# Altium schematic symbol library pads15l_schematic.SchLib: 15 symbols
Pins are listed as number, name and electrical type; pins without a type are passive.

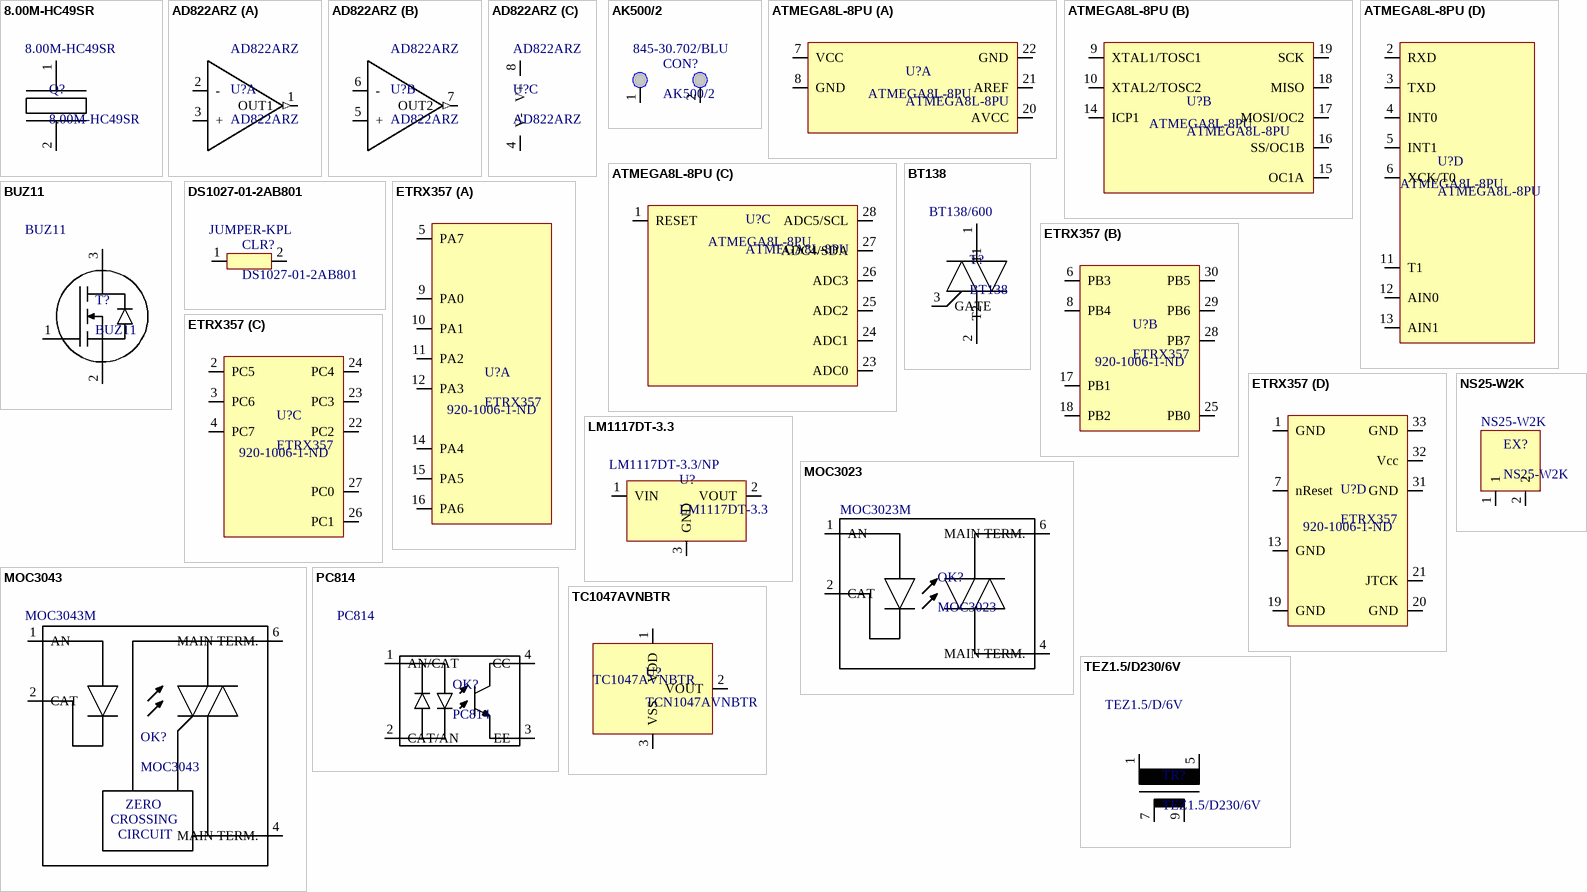
[diagram p0: symbols 8.00M-HC49SR to TEZ1.5/D230/6V]

## 8.00M-HC49SR
designator Q?
HC49SR 8 MHz crystal; HelpURL: http://www.tme.eu/pl/Document/efcb5317c1386eb387f1a821507cdec8/hc49_4h.pdf; Supplier 1: TME; Supplier Part Number 1: 8.00M-HC49SR
footprint HC49-S (Casing HC49-S for quartz crystals)
pins: 1, 2

## AD822ARZ
designator U?
Single-Supply, Rail-to-Rail Low Power FET-Input Op Amp; HelpURL: http://www.tme.eu/pl/Document/b30f5a7ab9ecbe4170886a73924c33dc/ad822anz.pdf; Supplier 1: TME; Supplier Part Number 1: AD822ARZ
footprint SO8
part A pins: 1 OUT1 (out), 2 -, 3 +
part B pins: 5 +, 6 -, 7 OUT2 (out)
part C pins: 4 V-, 8 V+

## AK500/2
designator CON?  Supplier Part Number 1: 845-30.702/BLU
AK500/2 connector; HelpURL: http://www.mouser.com/ds/2/16/PCBMETRC-24178.pdf; Supplier 1: Mouser
footprint AK500/2 (AK500/2 connector)
pins: 1, 2

## ATMEGA8L-8PU
designator U?
8-bit AVR with 8K Bytes In-System Programmable Flash; Supplier 1: TME; HelpURL: http://www.tme.eu/pl/Document/4747295279e62075253e4a5d4db4e737/atmega8_8l.pdf; Supplier Part Number 1: ATMEGA8L-8PU
footprint DIP28_600 (DIP28 for ATmega8L-8PU)
part A pins: 7 VCC, 8 GND, 20 AVCC, 21 AREF, 22 GND
part B pins: 9 XTAL1/TOSC1, 10 XTAL2/TOSC2, 14 ICP1, 15 OC1A, 16 SS/OC1B, 17 MOSI/OC2, 18 MISO, 19 SCK
part C pins: 1 RESET, 23 ADC0, 24 ADC1, 25 ADC2, 26 ADC3, 27 ADC4/SDA, 28 ADC5/SCL
part D pins: 2 RXD, 3 TXD, 4 INT0, 5 INT1, 6 XCK/T0, 11 T1, 12 AIN0, 13 AIN1

## BT138
designator T?  Supplier Part Number 1: BT138/600
Passivated triac in a plastic envelope, intended for use in applications requiring high bidirectional transient and blocking voltage capability and high thermal cycling performance.; HelpURL: http://www.tme.eu/pl/Document/de13a3ab15f686af93401a3099e67dbd/BT138_SERIES.pdf; Supplier 1: TME
footprint TO220AB (Casing TO220AB)
pins: 1 T1, 2 T2, 3 GATE

## BUZ11
designator T?
N-Channel Power MOSFET 50V, 30A, 40mOhm; HelpURL: http://www.tme.eu/pl/Document/32bcffe6b7dea628ccc11ebc5143910b/BUZ11.pdf; Supplier 1: TME; Supplier Part Number 1: BUZ11
footprint TO220AB (Casing TO220AB)
pins: 1, 2, 3

## DS1027-01-2AB801
designator CLR?  Supplier Part Number 1: JUMPER-KPL
2.54 mm jumper; HelpURL: http://www.tme.eu/pl/Document/bc1cc739b5b21bcc5cd54d6b6563701b/ds1027-01.pdf; Supplier 1: TME
footprint DS1027-01 (2.54 mm Jumper)
pins: 1, 2

## ETRX357
designator U?  Supplier Part Number 1: 920-1006-1-ND
Low power 2.4GHz ZigBee module, based on the latest Ember EM357 single chip ZigBeeTM solution; HelpURL: http://www.telegesis.com/wp-content/uploads/filebase/document-centre/etrx3_technical_manuals/TG-PM-0516-ETRX35x%20r9.pdf; Supplier 1: Digi-Key
footprint ETRX3 (Casing for ETRX3 modules)
part A pins: 5 PA7, 9 PA0, 10 PA1, 11 PA2, 12 PA3, 14 PA4, 15 PA5, 16 PA6
part B pins: 6 PB3, 8 PB4, 17 PB1, 18 PB2, 25 PB0, 28 PB7, 29 PB6, 30 PB5
part C pins: 2 PC5, 3 PC6, 4 PC7, 22 PC2, 23 PC3, 24 PC4, 26 PC1, 27 PC0
part D pins: 1 GND, 7 nReset, 13 GND, 19 GND, 20 GND, 21 JTCK, 31 GND, 32 Vcc, 33 GND

## LM1117DT-3.3
designator U?  Supplier Part Number 1: LM1117DT-3.3/NP
LDO voltage regulator with 800mA output current and 3.3V fixed voltage; HelpURL: http://www.ti.com/lit/ds/symlink/lm1117-n.pdf; Supplier 1: TME
footprint TO252 (TO252 case)
pins: 1 VIN, 2 VOUT, 3 GND

## MOC3023
designator OK?  Supplier Part Number 1: MOC3023M
6-Pin DIP Random-Phase Optoisolators Triac Driver Output; HelpURL: http://www.tme.eu/pl/Document/4c07e045ed4ac191018a957800b78b20/MOC3023M.pdf; Supplier 1: TME
footprint DIP6 (Casing DIP6)
pins: 1 AN, 2 CAT, 4 MAIN TERM., 6 MAIN TERM.

## MOC3043
designator OK?  Supplier Part Number 1: MOC3043M
6-Pin DIP Zero-Cross Optoisolator Triac Driver Output; HelpURL: http://www.tme.eu/pl/Document/9507bd26599850dad9f902e4b743c103/MOC-3041M.pdf; Supplier 1: TME
footprint DIP6 (Casing DIP6)
pins: 1 AN, 2 CAT, 4 MAIN TERM., 6 MAIN TERM.
text: ZERO; CROSSING; CIRCUIT

## NS25-W2K
designator EX?
2-pin Right Angle PCB Connector; HelpURL: http://www.tme.eu/pl/Document/f4fbc03349849389d5a444932ab1e0cf/ns25-w2p.pdf; Supplier 1: TME; Supplier Part Number 1: NS25-W2K
footprint NS25-W2K (2-pin connector)
pins: 1, 2

## PC814
designator OK?
4 pin DIP phototransistor photocoupler; HelpURL: http://www.tme.eu/pl/Document/7c72e8c0af6408fe6ea52e5b893bcefe/EL814.pdf; Supplier 1: TME; Supplier Part Number 1: PC814
footprint DIP4 (Casing DIP4)
pins: 1 AN/CAT, 2 CAT/AN, 3 EE, 4 CC

## TC1047AVNBTR
designator U?, comment TCN1047AVNBTR  Supplier Part Number 1: TC1047AVNBTR
Precision Temperature-to-Voltage Converter; HelpURL: http://www.tme.eu/pl/Document/7da6a51a09be68bd737cb23438343578/TC1047AVNBTR.pdf; Supplier 1: TME
footprint SOT23B (3-pin casing SOT23B)
pins: 1 VDD, 2 VOUT, 3 VSS

## TEZ1.5/D230/6V
designator TR?  Supplier Part Number 1: TEZ1.5/D/6V
Transformer for PCB; HelpURL: http://www.tme.eu/pl/Document/539865e675f27153c23510de49b984c9/TEZ-EN.pdf; Supplier 1: TME
footprint TEZ1.5
pins: 1, 5, 7, 9